# EAGLE library part AOZ1083 (library myLib)
1.2A Buck LED Driver for HB LEDs.
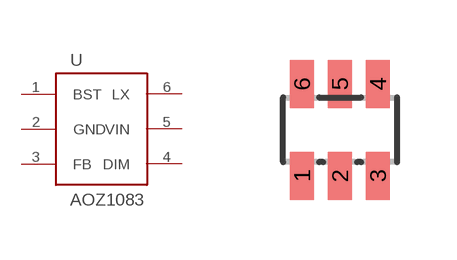
[diagram p1: symbol with the pads of SOT23-6L; footprint SOT23-6L]

Designator prefix -

## AOZ1083SOT23-6L  [SOT23-6L]
1  BST  in
2  GND  pwr
3  FB  in
4  DIM  in
5  VIN  pwr
6  LX  out

## Footprint SOT23-6L (pad centres in mm)
1.2A Buck LED Driver
smd 0.6 x 1.2: 1 -0.95,-1.15; 2 0,-1.15; 3 0.95,-1.15; 4 0.95,1.15; 5 0,1.15; 6 -0.95,1.15